# Altium footprint library XH2.54.PcbLib: 22 footprints (part 1 of 2)
Each footprint in its own frame and in the unit in brackets; x right, y up, seen from the top. Pads: shape width x height; smd on the part's side, far side on the other; paste and mask are expansions set on the pad; w line width, h text height; cw(c..) or ccw(c..) is an arc to the next point about the centre after c.
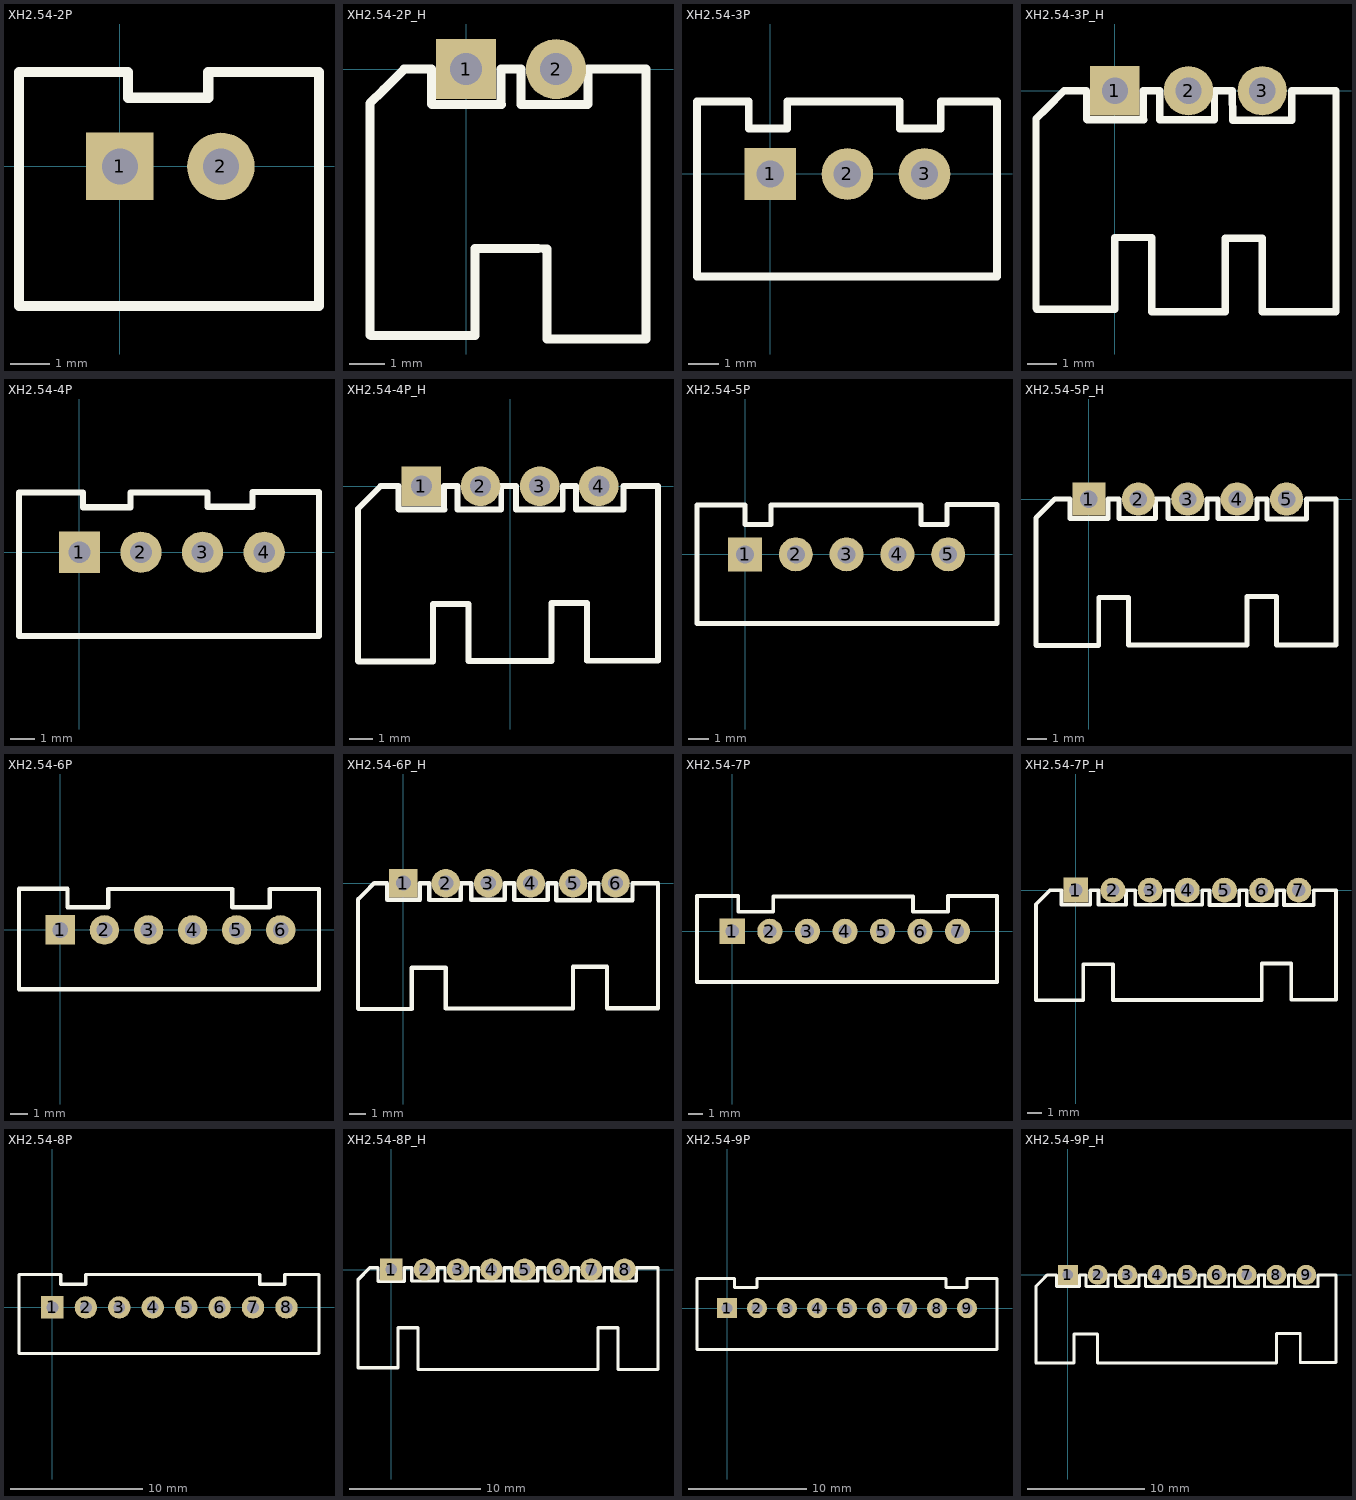
[diagram p0: the footprints below, top view; thin cyan lines are the x and y axes]

## XH2.54-2P [mm] "接插件，2P"
pads (2):
  rect 1.7x1.7 hole 0.9: 1(0,0)
  round 1.7 hole 0.9: 2(2.54,0)
Top Overlay:
  lines w0.254: -2.537,-3.505 5.006,-3.505 5.006,2.37 4.224,2.37 2.223,2.37 2.223,1.727 0.203,1.727 0.203,2.37 -2.537,2.37 -2.537,-3.505
3D body: height 7.05, standoff -2.45, extent -2.5,-3.3 5.04,2.4

## XH2.54-2P_H [mm] "接插件，2P"
pads (2):
  rect 1.7x1.7 hole 0.9: 1(0,0)
  round 1.7 hole 0.9: 2(2.54,0)
Top Overlay:
  lines w0.254: 3.434,0 3.434,-0.988 3.42,-1.002 1.554,-1.002 1.554,0 0.982,0 0.982,-0.982 0.996,-0.996 -0.96,-0.996 -0.974,-0.982 -0.974,0 -1.75,0 -2.332,-0.582 -2.716,-0.966 -2.716,-7.502 -2.69,-7.528 0.254,-7.528 0.254,-5.058 2.032,-5.058 2.286,-5.08 2.286,-7.62 2.54,-7.62 5.08,-7.62 5.08,0 4.044,0 3.446,0
3D body: height 5.73, standoff -3.37, extent -2.5,-7.35 5.04,0.35

## XH2.54-3P [mm] "接插件，3P"
pads (3):
  rect 1.7x1.7 hole 0.9: 1(0,0)
  round 1.7 hole 0.9: 2(2.54,0) 3(5.08,0)
Top Overlay:
  lines w0.254: -2.413,-3.378 -2.413,2.388 -0.711,2.388 -0.711,1.5 0.559,1.5 0.559,2.388 4.267,2.388 4.267,1.5 5.613,1.5 5.613,2.388 7.468,2.388 7.468,-3.378 -2.413,-3.378
3D body: height 7.03, standoff -2.47, extent -2.5,-3.3 7.58,2.4

## XH2.54-3P_H [mm] "接插件，3P"
pads (3):
  rect 1.7x1.7 hole 0.9: 1(0,0)
  round 1.7 hole 0.9: 2(2.54,0) 3(5.08,0)
Top Overlay:
  lines w0.254: 3.434,0 3.434,-0.988 3.42,-1.002 1.554,-1.002 1.554,0 0.982,0 0.982,-0.982 0.996,-0.996 -0.96,-0.996 -0.974,-0.982 -0.974,0 -1.75,0 -2.332,-0.582 -2.716,-0.966 -2.716,-7.502 -2.69,-7.528 0,-7.528 0,-5.058 1.27,-5.058 1.27,-7.62 2.54,-7.62 3.81,-7.62 3.81,-5.08 5.08,-5.08 5.08,-7.62 7.62,-7.62 7.62,0 6.584,0 6.096,0 6.096,-1.016 4.064,-1.016 4.044,0 3.446,0
3D body: height 5.73, standoff -3.37, extent -2.5,-7.35 7.58,0.35

## XH2.54-4P [mm] "接插件，4P"
pads (4):
  rect 1.7x1.7 hole 0.9: 1(0,0)
  round 1.7 hole 0.9: 2(2.54,0) 3(5.08,0) 4(7.62,0)
Top Overlay:
  lines w0.254: -2.489,-3.454 -2.489,2.464 0.152,2.464 0.152,1.854 2.108,1.854 2.108,2.464 5.283,2.464 5.283,1.88 7.137,1.88 7.137,2.489 9.881,2.489 9.881,-3.454 -2.489,-3.454
3D body: height 7.03, standoff -2.47, extent -2.5,-3.3 10.12,2.4

## XH2.54-4P_H [mm] "接插件，4P"
pads (4):
  rect 1.7x1.7 hole 0.9: 1(-3.81,0)
  round 1.7 hole 0.9: 2(-1.27,0) 3(1.27,0) 4(3.81,0)
Top Overlay:
  lines w0.254: -0.376,0 -0.376,-0.988 -0.39,-1.002 -2.256,-1.002 -2.256,0 -2.828,0 -2.828,-0.982 -2.814,-0.996 -4.77,-0.996 -4.784,-0.982 -4.784,0 -5.56,0 -6.142,-0.582 -6.526,-0.966 -6.526,-7.502 -6.5,-7.528 -3.302,-7.528 -3.302,-5.058 -1.778,-5.058 -1.778,-7.502 1.778,-7.502 1.778,-5.006 3.302,-5.006 3.302,-7.49 6.35,-7.49 6.35,0 4.916,0 ; -0.364,0 0.234,0 ; 0.248,-0.996 0.248,0 ; 0.268,-0.996 2.256,-0.996 2.262,-0.99 2.262,0 2.808,0 ; 2.822,0 2.822,-1.002 4.876,-1.002 ; 4.876,-0.976 4.876,0
3D body: height 5.73, standoff -3.37, extent -6.31,-7.35 6.31,0.35

## XH2.54-5P [mm] "接插件，5P"
pads (5):
  rect 1.7x1.7 hole 0.9: 1(0,0)
  round 1.7 hole 0.9: 2(2.54,0) 3(5.08,0) 4(7.62,0) 5(10.16,0)
Top Overlay:
  lines w0.254: 1.3,2.438 1.3,1.5 0,1.5 0,2.464 -2.4,2.464 -2.4,-3.454 12.6,-3.454 12.6,2.489 10.1,2.489 10.1,1.5 8.8,1.5 8.8,2.464 1.3,2.464
3D body: height 7.03, standoff -2.47, extent -2.5,-3.3 12.66,2.4

## XH2.54-5P_H [mm] "接插件，5P"
pads (5):
  rect 1.7x1.7 hole 0.9: 1(0,0)
  round 1.7 hole 0.9: 2(2.54,0) 3(5.08,0) 4(7.62,0) 5(10.16,0)
Top Overlay:
  lines w0.254: 3.434,0 3.434,-0.988 3.42,-1.002 1.554,-1.002 1.554,0 0.982,0 0.982,-0.982 0.996,-0.996 -0.96,-0.996 -0.974,-0.982 -0.974,0 -1.75,0 -2.332,-0.582 -2.716,-0.966 -2.716,-7.502 -2.69,-7.528 0.508,-7.528 0.508,-5.058 2.032,-5.058 2.032,-7.502 8.128,-7.502 8.128,-5.006 9.652,-5.006 9.652,-7.49 12.7,-7.49 12.7,0 11.176,0 11.176,-1.016 9.144,-1.016 9.144,0 8.636,0 8.636,-1.002 6.632,-1.002 6.632,0 ; 3.446,0 4.044,0 ; 4.058,-0.996 4.058,0 ; 4.078,-0.996 6.066,-0.996 6.072,-0.99 6.072,0 6.618,0
3D body: height 5.73, standoff -3.37, extent -2.5,-7.35 12.66,0.35

## XH2.54-6P [mm] "接插件，6P"
pads (6):
  rect 1.7x1.7 hole 0.9: 1(0,0)
  round 1.7 hole 0.9: 2(2.54,0) 3(5.08,0) 4(7.62,0) 5(10.16,0) 6(12.7,0)
Top Overlay:
  lines w0.254: -2.388,-3.429 -2.388,2.388 0.406,2.388 0.406,1.321 2.769,1.321 2.769,2.362 9.906,2.362 9.906,1.321 12.065,1.321 12.065,2.362 14.91,2.362 14.91,-3.429 -2.388,-3.429
3D body: height 7.03, standoff -2.47, extent -2.5,-3.3 15.2,2.4

## XH2.54-6P_H [mm] "接插件，6P"
pads (6):
  rect 1.7x1.7 hole 0.9: 1(0,0)
  round 1.7 hole 0.9: 2(2.54,0) 3(5.08,0) 4(7.62,0) 5(10.16,0) 6(12.7,0)
Top Overlay:
  lines w0.254: 3.434,0 3.434,-0.988 3.42,-1.002 1.554,-1.002 1.554,0 0.982,0 0.982,-0.982 0.996,-0.996 -0.96,-0.996 -0.974,-0.982 -0.974,0 -1.75,0 -2.332,-0.582 -2.716,-0.966 -2.716,-7.502 -2.69,-7.528 0.508,-7.528 0.508,-5.058 2.54,-5.058 2.54,-7.502 10.16,-7.502 10.16,-5.006 12.192,-5.006 12.192,-7.49 15.24,-7.49 15.24,0 13.716,0 13.716,-1.016 11.684,-1.016 11.684,0 11.176,0 11.176,-1.016 9.144,-1.016 9.144,0 8.636,0 8.636,-1.002 6.632,-1.002 6.632,0 ; 3.446,0 4.044,0 ; 4.058,-0.996 4.058,0 ; 4.078,-0.996 6.066,-0.996 6.072,-0.99 6.072,0 6.618,0
3D body: height 5.75, standoff -3.35, extent -2.5,-7.35 15.2,0.35

## XH2.54-7P [mm] "接插件，7P"
pads (7):
  rect 1.7x1.7 hole 0.9: 1(0,0)
  round 1.7 hole 0.9: 2(2.54,0) 3(5.08,0) 4(7.62,0) 5(10.16,0) 6(12.7,0) 7(15.24,0)
Top Overlay:
  lines w0.254: -2.388,-3.429 -2.388,2.388 0.406,2.388 0.406,1.321 2.769,1.321 2.769,2.362 9.906,2.362 12.231,2.362 12.231,1.321 14.594,1.321 14.594,2.388 17.907,2.388 17.907,-3.429 14.91,-3.429 -2.388,-3.429
3D body: height 7.05, standoff -2.45, extent -2.5,-3.302 17.74,2.398

## XH2.54-7P_H [mm] "接插件，7P"
pads (7):
  rect 1.7x1.7 hole 0.9: 1(0,0)
  round 1.7 hole 0.9: 2(2.54,0) 3(5.08,0) 4(7.62,0) 5(10.16,0) 6(12.7,0) 7(15.24,0)
Top Overlay:
  lines w0.254: 3.434,0 3.434,-0.988 3.42,-1.002 1.554,-1.002 1.554,0 0.982,0 0.982,-0.982 0.996,-0.996 -0.96,-0.996 -0.974,-0.982 -0.974,0 -1.75,0 -2.332,-0.582 -2.716,-0.966 -2.716,-7.502 -2.69,-7.528 0.508,-7.528 0.508,-5.058 2.54,-5.058 2.54,-7.502 12.7,-7.502 12.7,-5.006 14.732,-5.006 14.732,-7.49 17.78,-7.49 17.78,0 16.256,0 16.256,-1.016 14.224,-1.016 14.224,0 13.716,0 13.716,-1.016 11.684,-1.016 11.684,0 11.176,0 11.176,-1.016 9.144,-1.016 9.144,0 8.636,0 8.636,-1.002 6.632,-1.002 6.632,0 ; 3.446,0 4.044,0 ; 4.058,-0.996 4.058,0 ; 4.078,-0.996 6.066,-0.996 6.072,-0.99 6.072,0 6.618,0
3D body: height 5.75, standoff -3.35, extent -2.5,-7.35 17.74,0.35

## XH2.54-8P [mm] "接插件，8P"
pads (8):
  rect 1.7x1.7 hole 0.9: 1(0,0)
  round 1.7 hole 0.9: 2(2.54,0) 3(5.08,0) 4(7.62,0) 5(10.16,0) 6(12.7,0) 7(15.24,0) 8(17.78,0)
Top Overlay:
  lines w0.254: -2.54,-3.5 -2.54,2.5 0.635,2.5 0.635,1.75 2.54,1.75 2.54,2.5 15.748,2.5 15.748,1.75 17.653,1.75 17.653,2.5 20.25,2.5 20.25,-3.5 -2.54,-3.5
3D body: height 7.05, standoff -2.45, extent -2.5,-3.3 20.28,2.4

## XH2.54-8P_H [mm] "接插件，8P"
pads (8):
  rect 1.7x1.7 hole 0.9: 1(0,0)
  round 1.7 hole 0.9: 2(2.54,0) 3(5.08,0) 4(7.62,0) 5(10.16,0) 6(12.7,0) 7(15.24,0) 8(17.78,0)
Top Overlay:
  lines w0.254: 1.538,0.127 0.992,0.127 0.992,-0.889 -1.016,-0.889 -1.016,0.127 -1.651,0.127 -2.54,-0.762 -2.54,-7.485 0.508,-7.485 0.508,-4.445 2.032,-4.445 2.032,-7.62 15.748,-7.62 15.748,-4.445 17.272,-4.445 17.272,-7.62 20.32,-7.62 20.32,0.127 18.669,0.127 18.669,-0.762 18.669,-0.875 16.792,-0.875 16.792,0.127 ; 1.552,0.127 1.552,-0.875 3.52,-0.875 3.532,-0.863 3.532,0.127 4.078,0.127 ; 4.092,0.127 4.092,-0.875 6.06,-0.875 6.072,-0.863 6.072,0.127 6.618,0.127 ; 6.632,0.127 6.632,-0.875 8.6,-0.875 8.612,-0.863 8.612,0.127 9.158,0.127 ; 9.172,0.127 9.172,-0.875 11.14,-0.875 11.152,-0.863 11.152,0.127 11.698,0.127 ; 11.712,0.127 11.712,-0.875 13.68,-0.875 13.692,-0.863 13.692,0.127 14.238,0.127 ; 14.252,0.127 14.252,-0.875 16.22,-0.875 16.232,-0.863 16.232,0.127 16.778,0.127
3D body: height 5.75, standoff -3.35, extent -2.5,-7.35 20.28,0.35

## XH2.54-9P [mm] "接插件，9P"
pads (9):
  rect 1.7x1.7 hole 0.9: 1(0,0)
  round 1.7 hole 0.9: 2(2.54,0) 3(5.08,0) 4(7.62,0) 5(10.16,0) 6(12.7,0) 7(15.24,0) 8(17.78,0) 9(20.32,0)
Top Overlay:
  lines w0.254: -2.54,-3.5 22.86,-3.5 22.86,2.5 20.32,2.5 20.32,1.75 18.542,1.75 18.542,2.5 2.54,2.5 2.54,1.75 0.635,1.75 0.635,2.5 -2.54,2.5 -2.54,-3.5
3D body: height 7.05, standoff -3.35, extent -2.5,-3.3 22.82,2.4

## XH2.54-9P_H [mm] "接插件，9P"
pads (9):
  rect 1.7x1.7 hole 0.9: 1(0,0)
  round 1.7 hole 0.9: 2(2.54,0) 3(5.08,0) 4(7.62,0) 5(10.16,0) 6(12.7,0) 7(15.24,0) 8(17.78,0) 9(20.32,0)
Top Overlay:
  lines w0.254: 3.434,0 3.434,-0.988 3.42,-1.002 1.554,-1.002 1.554,0 0.982,0 0.982,-0.982 0.996,-0.996 -0.96,-0.996 -0.974,-0.982 -0.974,0 -1.75,0 -2.332,-0.582 -2.716,-0.966 -2.716,-7.502 -2.69,-7.528 0.508,-7.528 0.508,-5.058 2.54,-5.058 2.54,-7.502 17.78,-7.502 17.78,-5.006 19.812,-5.006 19.812,-7.49 22.86,-7.49 22.86,0 21.336,0 21.336,-1.016 19.304,-1.016 19.304,0 18.796,0 18.796,-1.016 16.764,-1.016 16.764,0 16.256,0 16.256,-1.016 14.224,-1.016 14.224,0 13.716,0 13.716,-1.016 11.684,-1.016 11.684,0 11.176,0 11.176,-1.016 9.144,-1.016 9.144,0 8.636,0 8.636,-1.002 6.632,-1.002 6.632,0 ; 3.446,0 4.044,0 ; 4.058,-0.996 4.058,0 ; 4.078,-0.996 6.066,-0.996 6.072,-0.99 6.072,0 6.618,0
3D body: height 5.75, standoff -3.35, extent -2.5,-7.35 22.82,0.35